# Altium schematic symbol library Seeed-Switch-x.SCHLIB: 13 symbols
Pins are listed as number, name and electrical type; pins without a type are passive.

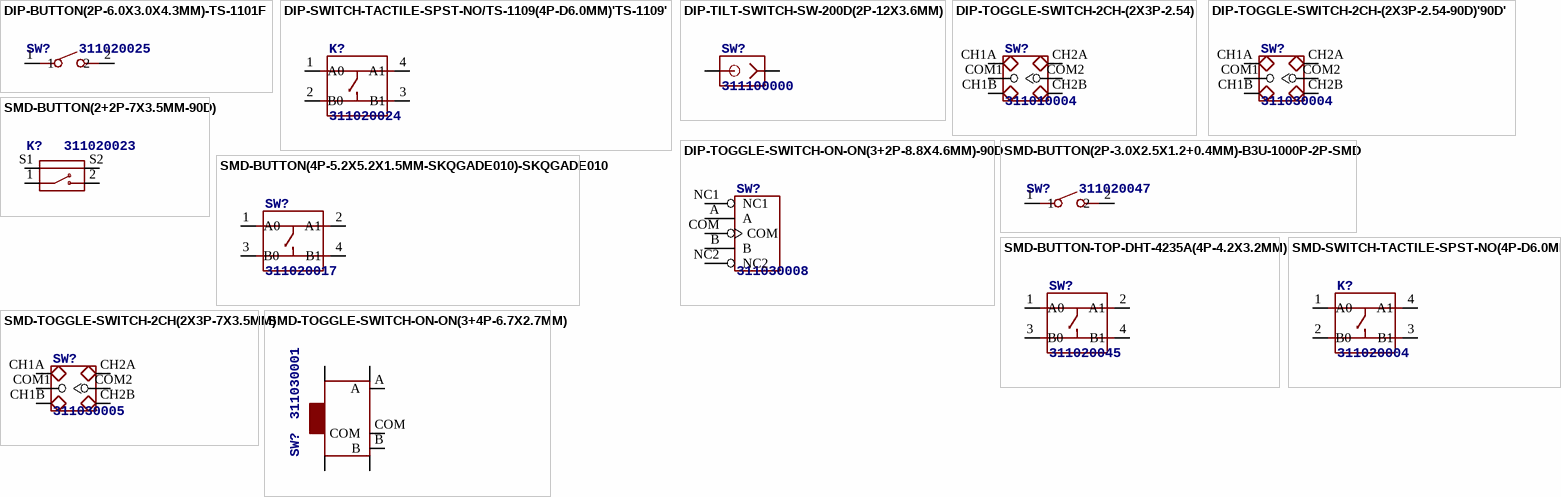
[diagram p0: symbols DIP-BUTTON(2P-6.0X3.0X4.3MM)-TS-1101F to SMD-TOGGLE-SWITCH-ON-ON(3+4P-6.7X2.7MM)]

## DIP-BUTTON(2P-6.0X3.0X4.3MM)-TS-1101F
designator SW?, comment 311020025
MPN: TS-1101F
footprint SW2-5.0-6.0X3.0X4.3MM
pins: 1, 2

## DIP-SWITCH-TACTILE-SPST-NO/TS-1109(4P-D6.0MM)'TS-1109'
designator K?, comment 311020024
footprint SW4-6.0X6.0X5.0MM
pins: 1 A0, 2 B0, 3 B1, 4 A1

## DIP-TILT-SWITCH-SW-200D(2P-12X3.6MM)
designator SW?, comment 311100000
MPN: SW-200D
footprint SW2-12.7-12.0X3.6X3.6MM
pins: 1, 2

## DIP-TOGGLE-SWITCH-2CH-(2X3P-2.54)
designator SW?, comment 311010004
MPN: MS-22D18 G2 ROHS
footprint SW6-2.54-9.0X3.5X3.2+2.0MM
pins: CH1A, CH1B, CH2A, CH2B, COM1, COM2

## DIP-TOGGLE-SWITCH-2CH-(2X3P-2.54-90D)'90D'
designator SW?, comment 311030004
footprint SW6-2.54-9.0X3.5X3.2MM-90D
pins: CH1A, CH1B, CH2A, CH2B, COM1, COM2

## DIP-TOGGLE-SWITCH-ON-ON(3+2P-8.8X4.6MM)-90D
designator SW?, comment 311030008
MPN: 3P-2.0-90D3P-2.0-90D-REINFORCE
footprint SW5-2.0-8.8X4.4X4.7MM-90D
pins: A, B, COM, NC1, NC2

## SMD-BUTTON(2+2P-7X3.5MM-90D)
designator K?, comment 311020023
MPN: TS-1188E
footprint SW4-SMD-7.0X3.5X3.5MM-90D
pins: 1, 2, S1, S2

## SMD-BUTTON(2P-3.0X2.5X1.2+0.4MM)-B3U-1000P-2P-SMD
designator SW?, comment 311020047
MPN: B3U-1000P-2P-SMD
footprint SW2-2.6-3.0X2.5X1.2+0.4MM
pins: 1, 2

## SMD-BUTTON(4P-5.2X5.2X1.5MM-SKQGADE010)-SKQGADE010
designator SW?, comment 311020017
MPN: SKQGADE010
footprint SW4-SMD-5.2X5.2X1.5MM
pins: 1 A0, 2 A1, 3 B0, 4 B1

## SMD-BUTTON-TOP-DHT-4235A(4P-4.2X3.2MM)
designator SW?, comment 311020045
MPN: DHT-4235A
footprint SW4-SMD-4.2X3.2X2.5MM
pins: 1 A0, 2 A1, 3 B0, 4 B1

## SMD-SWITCH-TACTILE-SPST-NO(4P-D6.0MM)
designator K?, comment 311020004
MPN: DTSM-62K-S-V-T/R(SN431)
footprint SW4-SMD-6.0X6.0X5.0MM
pins: 1 A0, 2 B0, 3 B1, 4 A1

## SMD-TOGGLE-SWITCH-2CH(2X3P-7X3.5MM)
designator SW?, comment 311030005
footprint SW6-2.54-SMD-7.0X3.5X1.5MM
pins: CH1A, CH1B, CH2A, CH2B, COM1, COM2

## SMD-TOGGLE-SWITCH-ON-ON(3+4P-6.7X2.7MM)
designator SW?, comment 311030001
MPN: MK-12C02 G1.5
footprint SW7-SMD-L6.7X2.7X3.2MM
pins: A, B, COM, SS1, SS2, SS3, SS4